# Altium schematic symbol library TLV9162IDR.SchLib: 1 symbol
Pins are listed as number, name and electrical type; pins without a type are passive.

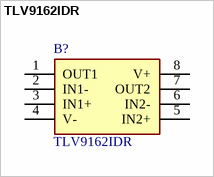
[diagram p0: symbol TLV9162IDR]

## TLV9162IDR
designator B?
Operational Amplifiers - Op Amps Dual 16V 11MHz ra il-to-rail input and; Manufacturer_Name: Texas Instruments; Geometry.Height: 1.75mm; Mouser Part Number: 595-TLV9162IDR; Mouser Price/Stock: https://www.mouser.co.uk/ProductDetail/Texas-Instruments/TLV9162IDR?qs=Rp5uXu7WBW9LK58BfNDvhQ%3D%3D; Manufacturer_Part_Number: TLV9162IDR; Datasheet Link: https://www.ti.com/lit/ds/symlink/tlv9162.pdf?ts=1741156126411&ref_url=https%253A%252F%252Fwww.ti.com%252Fproduct%252FTLV9162%252Fpart-details%252FTLV9162IDR
footprint SOIC127P600X175-8N
pins: 1 OUT1, 2 IN1-, 3 IN1+, 4 V-, 5 IN2+, 6 IN2-, 7 OUT2, 8 V+